# EAGLE library part MAX30105 (library miller)
MAX30105 and variants Digikey PN MAX30105EFD+-ND Same part may be used for MAX30101. Same part may be used for MAX30102, leave pin 7 (G_DRV) unconnected.
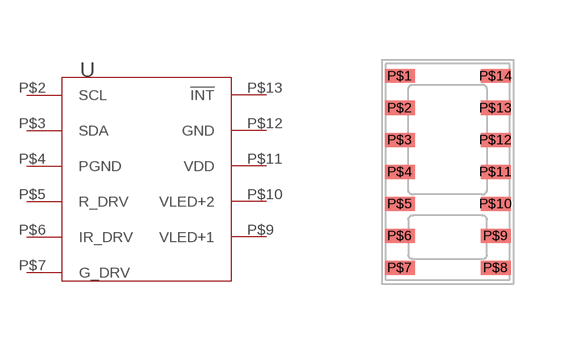
[diagram p36: symbol with the pads of 14-OESIP; footprint 14-OESIP]

Designator prefix -

## MAX30105  [14-OESIP]
P$2  SCL
P$3  SDA
P$4  PGND  pwr
P$5  R_DRV
P$6  IR_DRV
P$7  G_DRV
P$9  VLED+1  sup
P$10  VLED+2  sup
P$11  VDD  sup
P$12  GND  pwr
P$13  !INT

## Footprint 14-OESIP (pad centres in mm)
14-OESIP For MAX3010x heart rate and particle sensor chips. Locations of sensor windows in guide layer are approximate.
smd 0.75 x 0.35: P$1 -1.2,2.4; P$2 -1.2,1.6; P$3 -1.2,0.8; P$4 -1.2,0; P$5 -1.2,-0.8; P$6 -1.2,-1.6; P$7 -1.2,-2.4; P$8 1.2,-2.4; P$9 1.2,-1.6; P$10 1.2,-0.8; P$11 1.2,0; P$12 1.2,0.8; P$13 1.2,1.6; P$14 1.2,2.4